# EAGLE library part STM32DISCOVERY (library hsa_stm32_discovery_board)
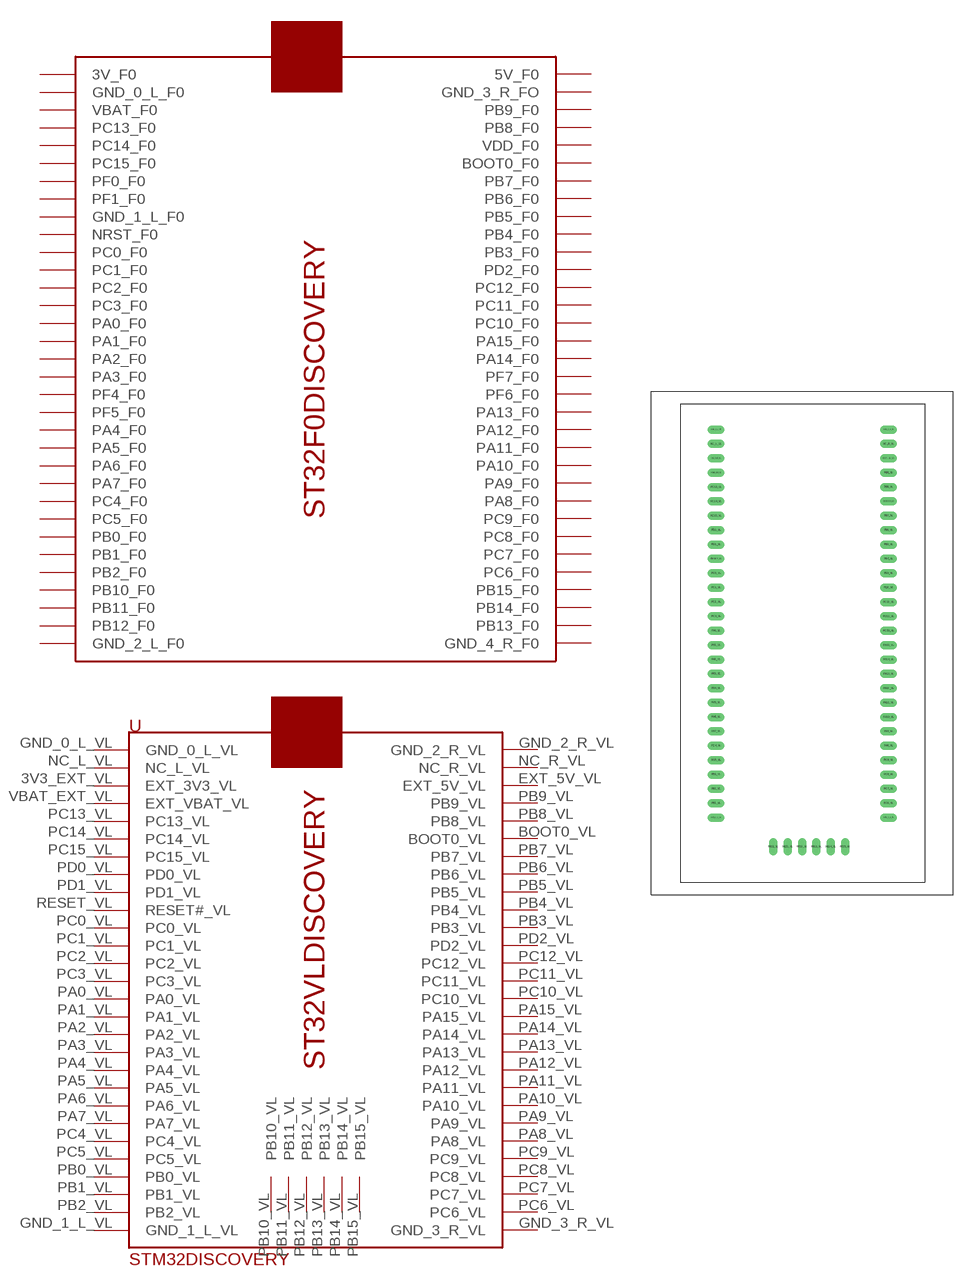
[diagram p3: symbol with the pads of STM32DISCOVERY; footprint STM32DISCOVERY]

Designator prefix -

## STM32DISCOVERY  [STM32DISCOVERY]
3V3_EXT_VL  EXT_3V3_VL
BOOT0_VL  BOOT0_VL
EXT_5V_VL  EXT_5V_VL
GND_0_L_VL  GND_0_L_VL
GND_1_L_VL  GND_1_L_VL  pwr
GND_2_R_VL  GND_2_R_VL
GND_3_R_VL  GND_3_R_VL
NC_L_VL  NC_L_VL
NC_R_VL  NC_R_VL
PA0_VL  PA0_VL
PA1_VL  PA1_VL
PA2_VL  PA2_VL
PA3_VL  PA3_VL
PA4_VL  PA4_VL
PA5_VL  PA5_VL
PA6_VL  PA6_VL
PA7_VL  PA7_VL
PA8_VL  PA8_VL
PA9_VL  PA9_VL
PA10_VL  PA10_VL
PA11_VL  PA11_VL
PA12_VL  PA12_VL
PA13_VL  PA13_VL
PA14_VL  PA14_VL
PA15_VL  PA15_VL
PB0_VL  PB0_VL
PB1_VL  PB1_VL
PB2_VL  PB2_VL
PB3_VL  PB3_VL
PB4_VL  PB4_VL
PB5_VL  PB5_VL
PB6_VL  PB6_VL
PB7_VL  PB7_VL
PB8_VL  PB8_VL
PB9_VL  PB9_VL
PB10_VL  PB10_VL
PB11_VL  PB11_VL
PB12_VL  PB12_VL
PB13_VL  PB13_VL
PB14_VL  PB14_VL
PB15_VL  PB15_VL
PC0_VL  PC0_VL
PC1_VL  PC1_VL
PC2_VL  PC2_VL
PC3_VL  PC3_VL
PC4_VL  PC4_VL
PC5_VL  PC5_VL
PC6_VL  PC6_VL
PC7_VL  PC7_VL
PC8_VL  PC8_VL
PC9_VL  PC9_VL
PC10_VL  PC10_VL
PC11_VL  PC11_VL
PC12_VL  PC12_VL
PC13_VL  PC13_VL
PC14_VL  PC14_VL
PC15_VL  PC15_VL
PD0_VL  PD0_VL
PD1_VL  PD1_VL
PD2_VL  PD2_VL
RESET_VL  RESET#_VL
VBAT_EXT_VL  EXT_VBAT_VL

## Footprint STM32DISCOVERY (pad centres in mm)
drill 1.016 long: 3V3_EXT_VL 11.43,77.08; BOOT0_VL 41.91,69.46; EXT_5V_VL 41.91,77.08; GND_0_L_VL 11.43,82.16; GND_1_L_VL 11.43,13.58; GND_2_R_VL 41.91,82.16; GND_3_R_VL 41.91,13.58; NC_L_VL 11.43,79.62; NC_R_VL 41.91,79.62; PA0_VL 11.43,46.6; PA1_VL 11.43,44.06; PA2_VL 11.43,41.52; PA3_VL 11.43,38.98; PA4_VL 11.43,36.44; PA5_VL 11.43,33.9; PA6_VL 11.43,31.36; PA7_VL 11.43,28.82; PA8_VL 41.91,26.28; PA9_VL 41.91,28.82; PA10_VL 41.91,31.36; PA11_VL 41.91,33.9; PA12_VL 41.91,36.44; PA13_VL 41.91,38.98; PA14_VL 41.91,41.52; PA15_VL 41.91,44.06; PB0_VL 11.43,21.2; PB1_VL 11.43,18.66; PB2_VL 11.43,16.12; PB3_VL 41.91,56.76; PB4_VL 41.91,59.3; PB5_VL 41.91,61.84; PB6_VL 41.91,64.38; PB7_VL 41.91,66.92; PB8_VL 41.91,72; PB9_VL 41.91,74.54; PB10_VL 21.53,8.45; PB11_VL 24.07,8.45; PB12_VL 26.61,8.45; PB13_VL 29.15,8.45; PB14_VL 31.69,8.45; PB15_VL 34.23,8.45; PC0_VL 11.43,56.76; PC1_VL 11.43,54.22; PC2_VL 11.43,51.68; PC3_VL 11.43,49.14; PC4_VL 11.43,26.28; PC5_VL 11.43,23.74; PC6_VL 41.91,16.12; PC7_VL 41.91,18.66; PC8_VL 41.91,21.2; PC9_VL 41.91,23.74; PC10_VL 41.91,46.6; PC11_VL 41.91,49.14; PC12_VL 41.91,51.68; PC13_VL 11.43,72; PC14_VL 11.43,69.46; PC15_VL 11.43,66.92; PD0_VL 11.43,64.38; PD1_VL 11.43,61.84; PD2_VL 41.91,54.22; RESET_VL 11.43,59.3; VBAT_EXT_VL 11.43,74.54